# Altium integrated library Logo.IntLib: 2 symbols
Pins are listed as number, name and electrical type; pins without a type are passive.

## Altium
designator ?
footprint Altium_20
footprint Altium_3

## Hes-so
designator ?  (value not drawn)
footprint HES-SO_6 Top Overlay (HESSO LOGO 6mm on TopOverlay)
footprint HES-SO_3 Top Overlay (HESSO LOGO 3mm on TopOverlay)
footprint HES-SO_3 Top Layer (HESSO LOGO 3mm on Top Layer)
footprint HES-SO_6 Top Layer (HESSO LOGO 6mm on Top Layer)
footprint HES-SO_10 Top Layer (HESSO LOGO 10mm on Top Layer)
footprint HES-SO_10 Top Overlay (HESSO LOGO 10mm on Top Overlay)